# Altium integrated library Cap ceramic瓷片电容.IntLib: 1 symbol
Pins are listed as number, name and electrical type; pins without a type are passive.

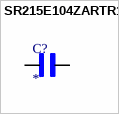
[diagram p0: symbol SR215E104ZARTR1]

## SR215E104ZARTR1
designator C?
Capacitor, Ceramic, 100nF, 50VDC, 20-% Tol, 80+% Tol, Z5U-TC Code, -56, 22%-TC; MF: AVX; MP: SR215E104ZARTR1; SnapEDA_Link: https://www.snapeda.com/parts/SR215E104ZARTR1/AVX/view-part/?ref=snap; Package: Radial AVX Interconnect / Elco; Value: *; Check_prices: https://www.snapeda.com/parts/SR215E104ZARTR1/AVX/view-part/?ref=eda
footprint CAPRR508W50L508T317H508
pins: 1, 2